# EAGLE library part LM358AMX_NOPB (library oneLab Lib)
Operational Amplifiers - Op Amps LOW PWR DUAL OP AMP Source: Datasheet <http://www.ti.com/lit/ds/symlink/lm358-n.pdf>
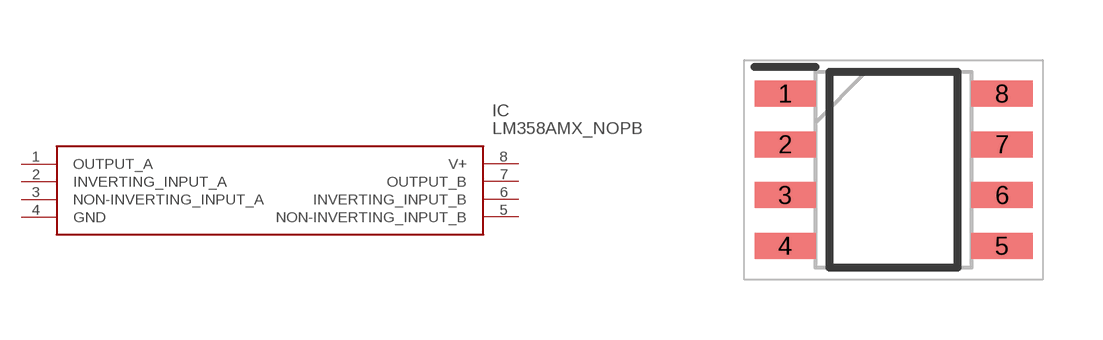
[diagram p1: symbol with the pads of SOIC127P600X175-8N; footprint SOIC127P600X175-8N]

Designator prefix IC

## LM358AMX_NOPB (ARROW_PART_NUMBER: LM358AMX/NOPB; ARROW_PRICE-STOCK: https://www.arrow.com/en/products/lm358amxnopb/texas-instruments; DESCRIPTION: Operational Amplifiers - Op Amps LOW PWR DUAL OP AMP; HEIGHT: 1.75mm; MANUFACTURER_NAME: Texas Instruments; MANUFACTURER_PART_NUMBER: LM358AMX/NOPB; MOUSER_PART_NUMBER: 926-LM358AMX/NOPB; MOUSER_PRICE-STOCK: https://www.mouser.co.uk/ProductDetail/Texas-Instruments/LM358AMX-NOPB?qs=QbsRYf82W3GCS6w419KcQg%3D%3D)  [SOIC127P600X175-8N]
1  OUTPUT_A
2  INVERTING_INPUT_A
3  NON-INVERTING_INPUT_A
4  GND
5  NON-INVERTING_INPUT_B
6  INVERTING_INPUT_B
7  OUTPUT_B
8  V+

## Footprint SOIC127P600X175-8N (pad centres in mm)
D0008A
smd 1.528 x 0.65: 1 -2.711,1.905; 2 -2.711,0.635; 3 -2.711,-0.635; 4 -2.711,-1.905; 5 2.711,-1.905; 6 2.711,-0.635; 7 2.711,0.635; 8 2.711,1.905